# Altium footprint library CAP_POL_SMD_G_1010_+_CAP_POL_10x16_V.PcbLib: 1 footprints
Each footprint in its own frame and in the unit in brackets; x right, y up, seen from the top. Pads: shape width x height; smd on the part's side, far side on the other; paste and mask are expansions set on the pad; w line width, h text height; cw(c..) or ccw(c..) is an arc to the next point about the centre after c.
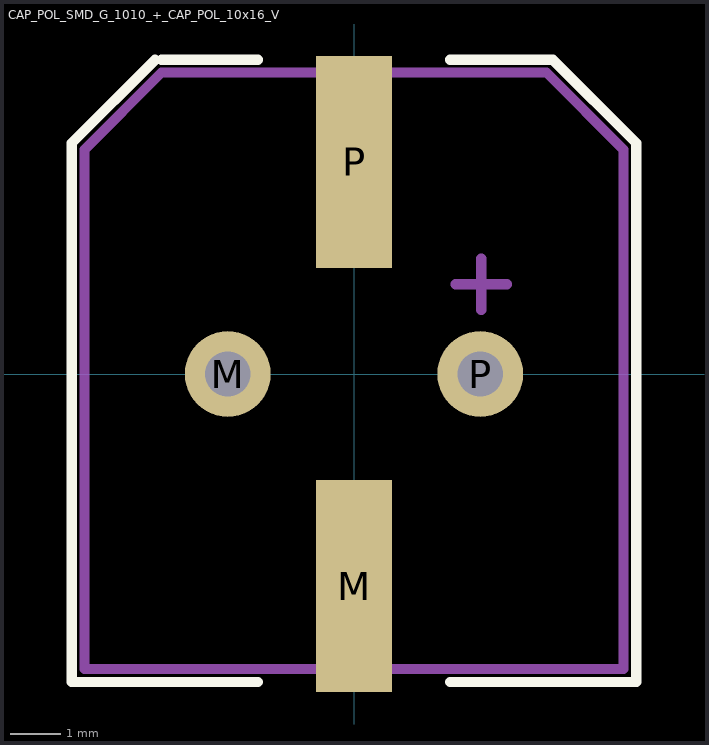
[diagram p0: the footprint, top view; thin cyan lines are the x and y axes]

## CAP_POL_SMD_G_1010_+_CAP_POL_10x16_V [mm]
pads (4):
  round 1.7 hole 0.9: M(-2.5,0) P(2.5,0)
  rect 1.5x4.2 smd: M(0,-4.2) P(0,4.2)
Top Overlay:
  lines w0.2: -3.937,6.223 -5.588,4.572 -5.588,-6.096 -1.905,-6.096 ; -3.81,6.223 -1.905,6.223 ; 1.905,-6.096 5.588,-6.096 5.588,4.572 3.937,6.223 3.81,6.223 1.905,6.223
Mechanical 13:
  lines w0.2: 2.012,1.778 3.028,1.778 ; 2.52,1.27 2.52,2.286 ; -5.334,-5.842 -5.334,4.445 -3.81,5.969 3.81,5.969 5.334,4.445 5.334,-5.842 -5.334,-5.842
  text ".Designator" at -3.556,-1.016 h2.5
3D body: height 10.21, standoff -0.01, extent -5.15,-5.715 5.15,5.885